# Altium footprint library LD3985M27R.PcbLib: 1 footprints
Each footprint in its own frame and in the unit in brackets; x right, y up, seen from the top. Pads: shape width x height; smd on the part's side, far side on the other; paste and mask are expansions set on the pad; w line width, h text height; cw(c..) or ccw(c..) is an arc to the next point about the centre after c.
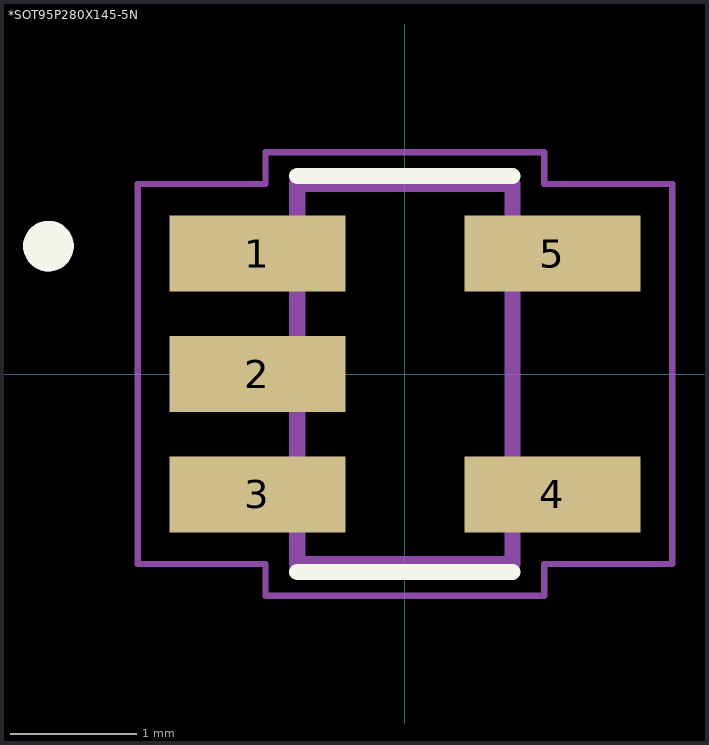
[diagram p0: the footprint, top view; thin cyan lines are the x and y axes]

## *SOT95P280X145-5N [mm]
pads (5):
  rect 1.39x0.6 smd: 1(-1.165,0.95) 2(-1.165,0) 3(-1.165,-0.95) 4(1.165,-0.95) 5(1.165,0.95)
Top Overlay:
  circle w0.2: c-2.813,1.009 r0.1
  lines w0.127: -0.85,-1.564 0.85,-1.564 ; -0.85,1.564 0.85,1.564
Mechanical 4:
  circle w0.2: c-2.813,1.009 r0.1
  circle w0.2: c-2.813,1.009 r0.1
  lines w0.127: -0.85,-1.5 0.85,-1.5 ; -0.85,-1.5 -0.85,1.5 ; -0.85,-1.5 0.85,-1.5 ; -0.85,-1.5 -0.85,1.5 ; -0.85,1.5 0.85,1.5 ; -0.85,1.5 0.85,1.5 ; 0.85,-1.5 0.85,1.5 ; 0.85,-1.5 0.85,1.5
Mechanical 16:
  lines w0.05: -2.11,-1.5 -1.1,-1.5 -1.1,-1.75 1.1,-1.75 1.1,-1.5 2.11,-1.5 2.11,1.5 1.1,1.5 1.1,1.75 -1.1,1.75 -1.1,1.5 -2.11,1.5 -2.11,-1.5